# Altium footprint library Thermostat_Components.PcbLib: 23 footprints (part 1 of 2)
Each footprint in its own frame and in the unit in brackets; x right, y up, seen from the top. Pads: shape width x height; smd on the part's side, far side on the other; paste and mask are expansions set on the pad; w line width, h text height; cw(c..) or ccw(c..) is an arc to the next point about the centre after c.
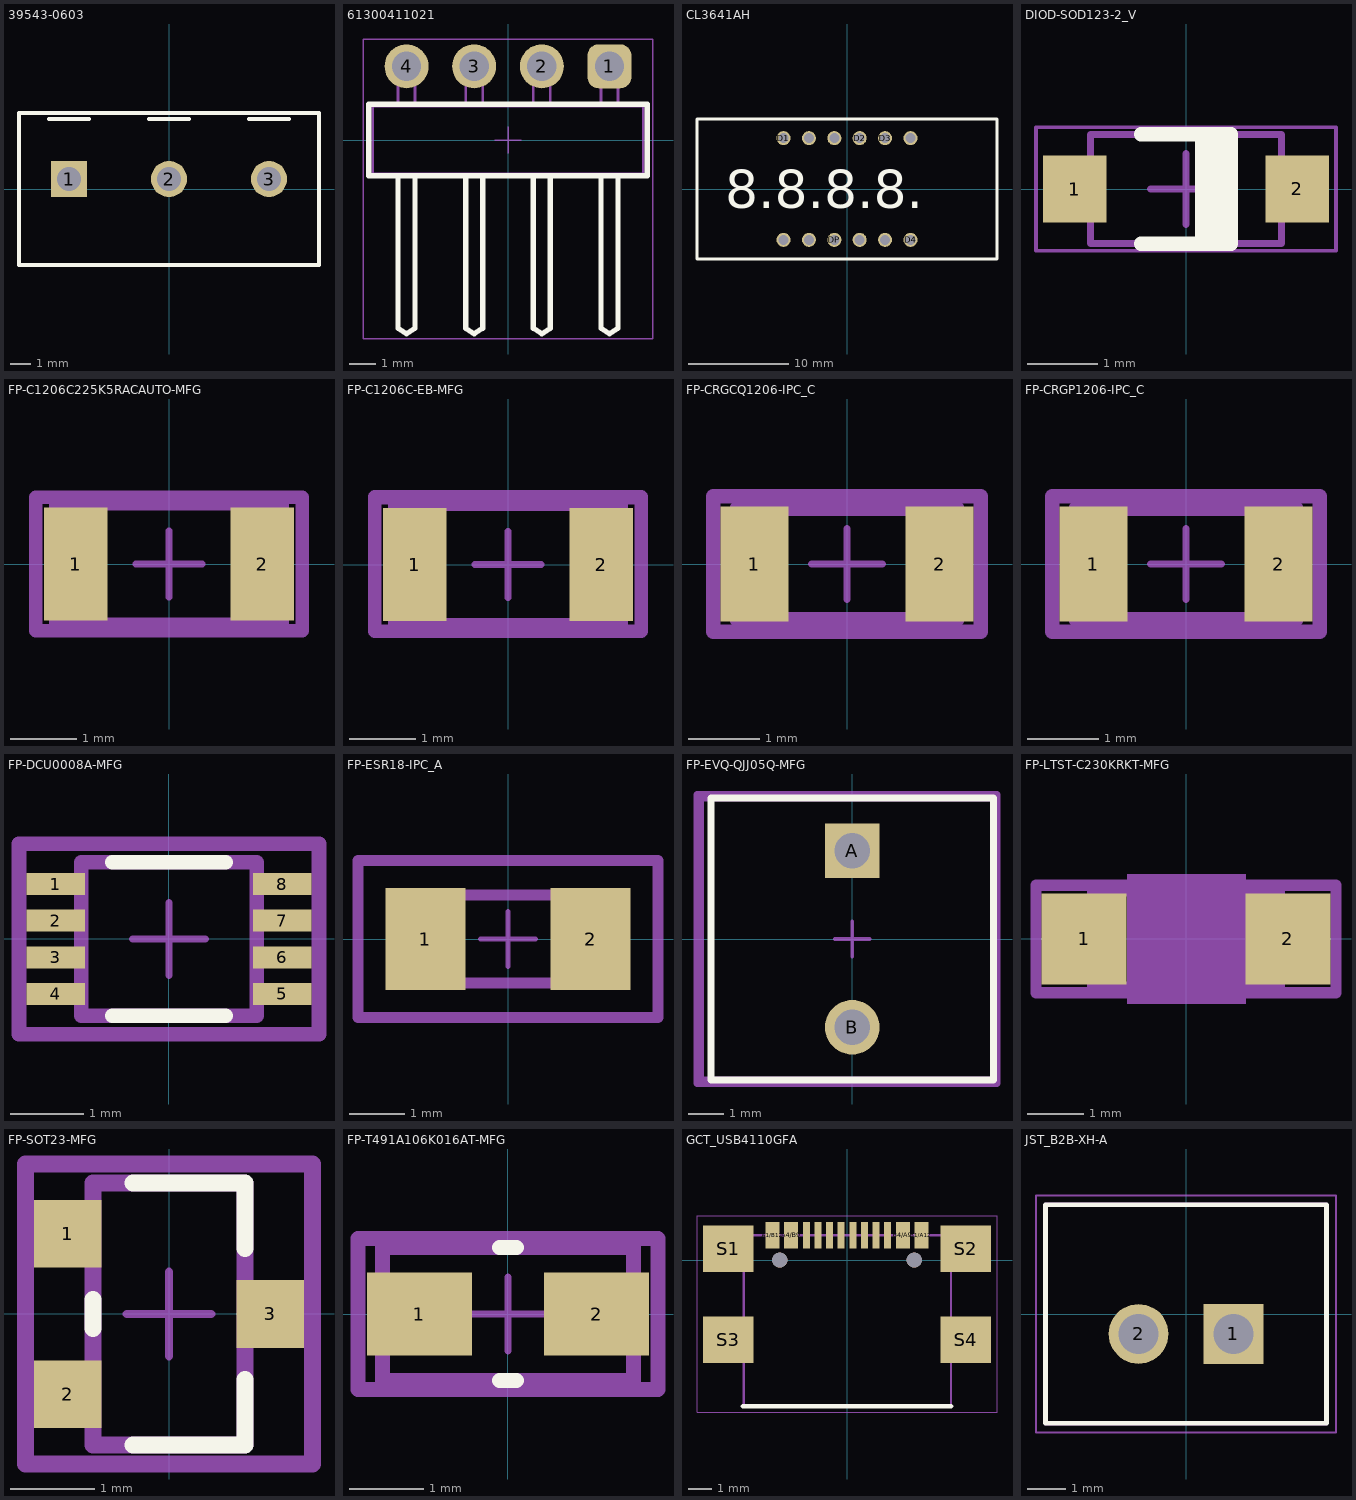
[diagram p0: the footprints below, top view; thin cyan lines are the x and y axes]

## 39543-0603 [mm]
pads (3):
  rect 1.8x1.8 / inner round 1.8 / far side rect 1.8x1.8 hole 1.2: 1(-5,0.5)
  round 1.8 hole 1.2: 2(0,0.5) 3(5,0.5)
Top Overlay:
  lines w0.2: -6,3.5 -4,3.5 ; -1,3.5 1,3.5 ; 4,3.5 6,3.5 ; -7.5,-3.8 -7.5,3.8 7.5,3.8 7.5,-3.8 -7.5,-3.8
Top 3D Body:
  lines w0.05: -7.5,-3.8 7.5,-3.8 7.5,3.8 -7.5,3.8 -7.5,-3.8

## 61300411021 [mm] "Pin Header, pitch 2.54 mm, THT, Angled, single row, 4p"
height 2.54
pads (4):
  rrect50% 1.65x1.65 hole 1.1: 1(3.81,2.77)
  round 1.65 hole 1.1: 2(1.27,2.77) 3(-1.27,2.77) 4(-3.81,2.77)
Top Overlay:
  lines w0.2: -4.13,-1.345 -4.13,-7.07 -3.81,-7.27 -3.49,-7.07 -3.49,-1.345 ; -1.59,-1.345 -1.59,-7.07 -1.27,-7.27 -0.95,-7.07 -0.95,-1.345 ; 0.95,-1.345 0.95,-7.07 1.27,-7.27 1.59,-7.07 1.59,-1.345 ; 3.49,-1.345 3.49,-7.07 3.81,-7.27 4.13,-7.07 4.13,-1.345 ; -5.23,-1.345 -5.23,1.345 5.23,1.345 5.23,-1.345 -5.23,-1.345
Top Designator:
  text ".Designator" at -7.498,-0.5 h1.5
Top Component Outline:
  lines w0.1: -4.13,-1.27 -4.13,-7.07 -3.81,-7.27 -3.49,-7.07 -3.49,-1.27 ; -4.13,1.27 -4.13,3.09 -3.49,3.09 -3.49,1.27 ; -1.59,-1.27 -1.59,-7.07 -1.27,-7.27 -0.95,-7.07 -0.95,-1.27 ; -1.59,1.27 -1.59,3.09 -0.95,3.09 -0.95,1.27 ; 0.95,-1.27 0.95,-7.07 1.27,-7.27 1.59,-7.07 1.59,-1.27 ; 0.95,1.27 0.95,3.09 1.59,3.09 1.59,1.27 ; 3.49,-1.27 3.49,-7.07 3.81,-7.27 4.13,-7.07 4.13,-1.27 ; 3.49,1.27 3.49,3.09 4.13,3.09 4.13,1.27 ; -5.08,-1.27 5.08,-1.27 5.08,1.27 -5.08,1.27 -5.08,-1.27
Top Courtyard:
  lines w0.05: -5.43,-7.47 -5.43,3.795 5.43,3.795 5.43,-7.47 -5.43,-7.47
Top Component Center:
  lines w0.05: -0.5,0 0.5,0 ; 0,-0.5 0,0.5
3D body "61300411021.stp": height 2.58, standoff -2.96, extent -5.08,-7.27 5.08,3.09

## CL3641AH [mm] "4 digit 7 segment led common anode led display"
height 0.183
pads (12):
  round 1.406 hole 1: D1(-6.35,5.08) D2(1.27,5.08) D3(3.81,5.08) D4(6.35,-5.08) DP(-1.27,-5.08) SEGA(-3.81,5.08) SEGB(6.35,5.08) SEGC(1.27,-5.08) SEGD(-3.81,-5.08) SEGE(-6.35,-5.08) SEGF(-1.27,5.08) SEGG(3.81,-5.08)
Top Overlay:
  lines w0.254: -15,-7 15,-7 15,7 -15,7 -15,-7
  text "8.8.8.8." at -12.192,-1.905 h3.81
3D body "SEVE_SEG_036INX4.stp": height 0.1, standoff -11.2, extent -14.924,-6.985 15.076,7.015

## DIOD-SOD123-2_V [mm] "SOD123, 2-Leads, Body 2.7x1.55mm, Height 1.45mm"
height 1.45
pads (2):
  rect 0.9x0.95 smd: 1(-1.575,0) 2(1.575,0)
Top Overlay:
  rectangle: 0.127,-0.825 0.635,0.762
  lines w0.2: -0.635,-0.775 0.635,-0.775 0.635,0.775 -0.635,0.775
Top 3D Body:
  lines w0.1: -1.35,-0.775 -1.35,0.775 1.35,0.775 1.35,-0.775 -1.35,-0.775
Top Courtyard:
  lines w0.05: -2.125,-0.875 -2.125,0.875 2.125,0.875 2.125,-0.875 -2.125,-0.875
  lines w0.1: -0.5,0 0.5,0 ; 0,-0.5 0,0.5
3D body: height 1.45, standoff 0, extent -1.35,-0.775 1.35,0.775

## FP-C1206C225K5RACAUTO-MFG [mm]
pads (2):
  rect 0.95x1.7 smd paste+0 mask+0: 1(-1.4,0) 2(1.4,0)
Top Assembly:
  lines w0.2: -2,-1 2,-1 2,1 -2,1 -2,-1
  text ".Designator" at 0,0.188 h1
Top 3D Body:
  lines w0.2: -1.7,-0.9 1.7,-0.9 1.7,0.9 -1.7,0.9 -1.7,-0.9
Top Courtyard:
  lines w0.2: -2,-1 2,-1 2,1 -2,1 -2,-1
Top Component Center:
  lines w0.1: -0.5,0 0.5,0 ; 0,-0.5 0,0.5
3D body "Cap_Kemet_C1206C225K5RACAUTO_eec.STEP": height 0.25, standoff 0, extent -2,-1 2,1

## FP-C1206C-EB-MFG [mm]
pads (2):
  rect 0.95x1.7 smd paste+0 mask+0: 1(-1.4,0) 2(1.4,0)
Top Assembly:
  lines w0.2: -2,-1 -2,1 2,1 2,-1 -2,-1
  text ".Designator" at 0,0.188 h1
Top 3D Body:
  lines w0.2: -1.7,-0.9 -1.7,0.9 1.7,0.9 1.7,-0.9 -1.7,-0.9
Top Courtyard:
  lines w0.2: -2,-1 -2,1.016 2,1.016 2,-1 -2,-1
Top Component Center:
  lines w0.1: -0.5,0 0.5,0 ; 0,-0.5 0,0.5
3D body "Cap_KEMET_C1206C472K4RACTU_eec.STEP": height 0.25, standoff 0, extent -2,-1 2,1

## FP-CRGCQ1206-IPC_C [mm]
pads (2):
  rect 0.956x1.61 smd paste+0 mask+0: 1(-1.301,0) 2(1.301,0)
Top Assembly:
  lines w0.2: -1.879,-0.95 -1.879,0.95 1.879,0.95 1.879,-0.95 -1.879,-0.95
  text ".Designator" at 0,0.188 h1
Top 3D Body:
  lines w0.2: -1.55,-0.775 -1.55,0.775 1.55,0.775 1.55,-0.775 -1.55,-0.775
Top Courtyard:
  lines w0.2: -1.879,-0.95 -1.879,0.95 1.879,0.95 1.879,-0.95 -1.879,-0.95
Top Component Center:
  lines w0.1: -0.5,0 0.5,0 ; 0,-0.5 0,0.5
3D body "Res_TE_Connectivity_CRGCQ1206F33R_eec.STEP": height 0.25, standoff 0, extent -1.879,-0.95 1.879,0.95

## FP-CRGP1206-IPC_C [mm]
pads (2):
  rect 0.956x1.61 smd paste+0 mask+0: 1(-1.301,0) 2(1.301,0)
Top Assembly:
  lines w0.2: -1.879,-0.95 1.879,-0.95 1.879,0.95 -1.879,0.95 -1.879,-0.95
  text ".Designator" at 0,0.188 h1
Top 3D Body:
  lines w0.2: -1.55,-0.775 1.55,-0.775 1.55,0.775 -1.55,0.775 -1.55,-0.775
Top Courtyard:
  lines w0.2: -1.879,-0.95 1.879,-0.95 1.879,0.95 -1.879,0.95 -1.879,-0.95
Top Component Center:
  lines w0.1: -0.5,0 0.5,0 ; 0,-0.5 0,0.5
3D body "Res_TE_CRGP1206F4K7_eec.STEP": height 0.25, standoff 0, extent -1.879,-0.95 1.879,0.95

## FP-DCU0008A-MFG [mm]
pads (8):
  rect 0.8x0.3 smd paste-1000 mask+0: 1(-1.55,0.75) 2(-1.55,0.25) 3(-1.55,-0.25) 4(-1.55,-0.75) 5(1.55,-0.75) 6(1.55,-0.25) 7(1.55,0.25) 8(1.55,0.75)
Top Overlay:
  lines w0.2: -0.775,-1.05 0.775,-1.05 ; -0.775,1.05 0.775,1.05
Top Paste:
  rectangle: 1.175,-0.875 1.925,-0.625
  rectangle: 1.175,-0.375 1.925,-0.125
  rectangle: 1.175,0.125 1.925,0.375
  rectangle: 1.175,0.625 1.925,0.875
  rectangle: -1.925,-0.875 -1.175,-0.625
  rectangle: -1.925,-0.375 -1.175,-0.125
  rectangle: -1.925,0.125 -1.175,0.375
  rectangle: -1.925,0.625 -1.175,0.875
Top Assembly:
  lines w0.2: -2.05,-1.3 2.05,-1.3 2.05,1.3 -2.05,1.3 -2.05,-1.3
  text ".Designator" at 0,0.188 h1
Top 3D Body:
  lines w0.2: -1.2,-1.05 1.2,-1.05 1.2,1.05 -1.2,1.05 -1.2,-1.05
Top Courtyard:
  lines w0.2: -2.05,-1.3 2.05,-1.3 2.05,1.3 -2.05,1.3 -2.05,-1.3
Top Component Center:
  lines w0.1: -0.5,0 0.5,0 ; 0,-0.5 0,0.5
3D body "IC_Texas_Instruments_TXS0102DCUR_eec.STEP": height 0.25, standoff 0, extent -2.05,-1.3 2.05,1.3

## FP-ESR18-IPC_A [mm]
pads (2):
  rect 1.456x1.858 smd paste+0 mask+0: 1(-1.501,0) 2(1.501,0)
Top Assembly:
  lines w0.2: -2.729,-1.429 2.729,-1.429 2.729,1.429 -2.729,1.429 -2.729,-1.429
  text ".Designator" at 0,0.188 h1
Top 3D Body:
  lines w0.2: -1.6,-0.8 1.6,-0.8 1.6,0.8 -1.6,0.8 -1.6,-0.8
Top Courtyard:
  lines w0.2: -2.729,-1.429 2.729,-1.429 2.729,1.429 -2.729,1.429 -2.729,-1.429
Top Component Center:
  lines w0.1: -0.5,0 0.5,0 ; 0,-0.5 0,0.5
3D body "Res_Rohm_ESR18EZPJ333_eec.STEP": height 0.25, standoff 0, extent -2.729,-1.429 2.729,1.429

## FP-EVQ-QJJ05Q-MFG [mm]
pads (2):
  rect 1.55x1.55 hole 1 paste-2539.97 mask+0: A(0,2.5)
  round 1.55 hole 1 paste-2539.97 mask+0: B(0,-2.5)
Top Overlay:
  lines w0.2: -4,-4 4,-4 4,4 -4,4 -4,-4
Top Assembly:
  lines w0.2: -4.4,-4.1 4.1,-4.1 4.1,4.1 -4.4,4.1 -4.4,-4.1
  text ".Designator" at -0.15,-0.001 h1
Top 3D Body:
  lines w0.2: -4.3,-4 4,-4 4,4 -4.3,4 -4.3,-4
Top Courtyard:
  lines w0.2: -4.4,-4.1 4.1,-4.1 4.1,4.1 -4.4,4.1 -4.4,-4.1
Top Component Center:
  lines w0.1: -0.5,0 0.5,0 ; 0,-0.5 0,0.5
3D body "Switch_Panasonic_Electronic_Components_EVQ-QJJ05Q_eec.STEP": height 0.25, standoff 0, extent -4.4,-4.1 4.1,4.1

## FP-LTST-C230KRKT-MFG [mm]
pads (2):
  rect 1.5x1.6 smd paste+0 mask+0: 1(-1.8,0) 2(1.8,0)
Mechanical 3:
  rectangle: -1.044,-1.15 1.056,1.15
Top Assembly:
  lines w0.2: -2.65,-0.95 2.65,-0.95 2.65,0.95 -2.65,0.95 -2.65,-0.95
  text ".Designator" at 0,-0.001 h1
Top 3D Body:
  lines w0.2: -1.65,-0.85 1.65,-0.85 1.65,0.85 -1.65,0.85 -1.65,-0.85
Top Courtyard:
  lines w0.2: -2.65,-0.95 2.65,-0.95 2.65,0.95 -2.65,0.95 -2.65,-0.95
Top Component Center:
  lines w0.1: -0.5,0 0.5,0 ; 0,-0.5 0,0.5
3D body "Diode_Lite-On_LTST-C230KRKT_eec.STEP": height 0.25, standoff 0, extent -2.65,-0.95 2.65,0.95

## FP-SOT23-MFG [mm]
pads (3):
  rect 0.8x0.8 smd paste+0 mask+0: 1(-1.2,0.95) 2(-1.2,-0.95) 3(1.2,0)
Top Overlay:
  lines w0.2: -0.9,-0.175 -0.9,0.175 ; -0.425,-1.55 0.9,-1.55 0.9,-0.775 ; -0.425,1.55 0.9,1.55 0.9,0.775
Top Assembly:
  lines w0.2: -1.7,-1.777 -1.7,1.777 1.7,1.777 1.7,-1.777 -1.7,-1.777
  text ".Designator" at 0,-0.001 h1
Top 3D Body:
  lines w0.2: -0.9,-1.55 -0.9,1.55 0.9,1.55 0.9,-1.55 -0.9,-1.55
Top Courtyard:
  lines w0.2: -1.7,-1.777 -1.7,1.777 1.7,1.777 1.7,-1.777 -1.7,-1.777
Top Component Center:
  lines w0.1: -0.5,0 0.5,0 ; 0,-0.5 0,0.5
3D body "Trans_Alpha_&_Omega_Semiconductor_AO3400A_eec.STEP": height 0.25, standoff 0, extent -1.7,-1.777 1.7,1.777

## FP-T491A106K016AT-MFG [mm]
pads (2):
  rect 1.42x1.13 smd paste+0 mask+0: 1(-1.2,0) 2(1.2,0)
Top Overlay:
  lines w0.2: -0.115,-0.9 0.115,-0.9 ; -0.115,0.9 0.115,0.9
Top Assembly:
  lines w0.2: -2.03,-1.02 2.03,-1.02 2.03,1.02 -2.03,1.02 -2.03,-1.02
  text ".Designator" at 0,-0.001 h1
Top 3D Body:
  lines w0.2: -1.7,-0.9 1.7,-0.9 1.7,0.9 -1.7,0.9 -1.7,-0.9
Top Courtyard:
  lines w0.2: -2.03,-1.02 2.03,-1.02 2.03,1.02 -2.03,1.02 -2.03,-1.02
Top Component Center:
  lines w0.1: -0.5,0 0.5,0 ; 0,-0.5 0,0.5
3D body "Cap_Kemet_T491A106K016AT_eec.STEP": height 0.25, standoff 0, extent -2.03,-1.02 2.03,1.02

## GCT_USB4110GFA [mm]
pads (18):
  rect 0.6x1.15 smd: A1/B12(-3.2,1.075) A4/B9(-2.4,1.075) B1/A12(3.2,1.075) B4/A9(2.4,1.075)
  rect 0.3x1.15 smd: A5(-1.25,1.075) A6(-0.25,1.075) A7(0.25,1.075) A8(1.25,1.075) B5(1.75,1.075) B6(0.75,1.075) B7(-0.75,1.075) B8(-1.75,1.075)
  rect 2.18x2 smd: S1(-5.11,0.5) S2(5.11,0.5) S3(-5.11,-3.43) S4(5.11,-3.43)
  round 0.65 hole 0.65 unplated: ""(-2.89,0) ""(2.89,0)
Top Overlay:
  lines w0.2: -4.47,-6.28 4.47,-6.28
Top 3D Body:
  lines w0.1: -4.445,-6.28 4.47,-6.28 4.47,1.07 -4.445,1.07 -4.445,-6.28
Top Courtyard:
  lines w0.05: -6.45,-6.53 -6.45,1.9 6.45,1.9 6.45,-6.53 -6.45,-6.53
3D body "step_temp.STEP": height 3.26, standoff -0.63, extent -5.65,-6.28 5.65,1.42

## JST_B2B-XH-A [mm]
height 7
pads (2):
  rect 1.575x1.575 / inner round 1.575 / far side rect 1.575x1.575 hole 1.05: 1(1.25,-0.525)
  round 1.575 hole 1.05: 2(-1.25,-0.525)
Top Overlay:
  lines w0.127: -3.7,-2.875 3.7,-2.875 3.7,2.875 -3.7,2.875 -3.7,-2.875
Top 3D Body:
  lines w0.127: -3.7,-2.875 3.7,-2.875 3.7,2.875 -3.7,2.875 -3.7,-2.875
Top Courtyard:
  lines w0.05: -3.95,-3.125 -3.95,3.125 3.95,3.125 3.95,-3.125 -3.95,-3.125